# EAGLE library part LT3990IMSE-5#PBF (library LT3990IMSE-5#PBF)
62V, 350mA Step-Down Regulator with 2.5??A Quiescent Current and Integrated Diodes Source: Datasheet <https://www.analog.com/LT3990/datasheet>
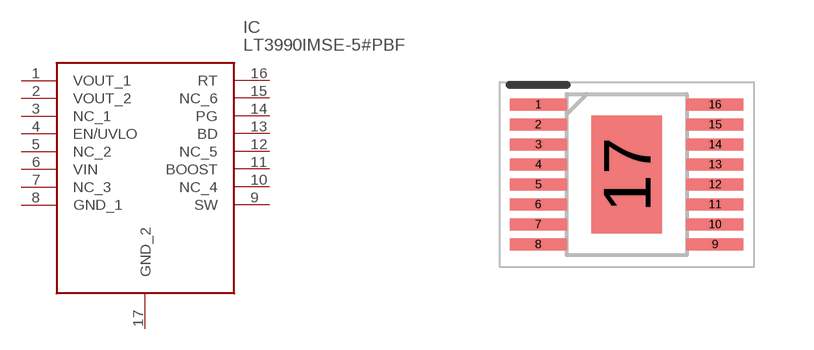
[diagram p0: symbol with the pads of SOP50P490X110-17N; footprint SOP50P490X110-17N]

Designator prefix IC

## LT3990IMSE-5#PBF (Description: 62V, 350mA Step-Down Regulator with 2.5??A Quiescent Current and Integrated Diodes; Height: 1.1mm; Manufacturer_Name: Analog Devices; Manufacturer_Part_Number: LT3990IMSE-5#PBF; Mouser_Part_Number: 584-LT3990IMSE-5#PBF; Mouser_Price-Stock: https://www.mouser.co.uk/ProductDetail/Analog-Devices/LT3990IMSE-5PBF?qs=hVkxg5c3xu%252BVMOa5O8HlFw%3D%3D)  [SOP50P490X110-17N]
1  VOUT_1
2  VOUT_2
3  NC_1
4  EN/UVLO
5  NC_2
6  VIN
7  NC_3
8  GND_1
9  SW
10  NC_4
11  BOOST
12  NC_5
13  BD
14  PG
15  NC_6
16  RT
17  GND_2

## Footprint SOP50P490X110-17N (pad centres in mm)
EXPOSED PAD MINI_SOIC_1
smd 1.425 x 0.3: 1 -2.212,1.75; 2 -2.212,1.25; 3 -2.212,0.75; 4 -2.212,0.25; 5 -2.212,-0.25; 6 -2.212,-0.75; 7 -2.212,-1.25; 8 -2.212,-1.75; 9 2.212,-1.75; 10 2.212,-1.25; 11 2.212,-0.75; 12 2.212,-0.25; 13 2.212,0.25; 14 2.212,0.75; 15 2.212,1.25; 16 2.212,1.75
smd 1.753 x 2.947: 17 0,0